# Altium footprint library PCB - MISC - RJHSE538002.PCBLIB: 1 footprints
Each footprint in its own frame and in the unit in brackets; x right, y up, seen from the top. Pads: shape width x height; smd on the part's side, far side on the other; paste and mask are expansions set on the pad; w line width, h text height; cw(c..) or ccw(c..) is an arc to the next point about the centre after c.
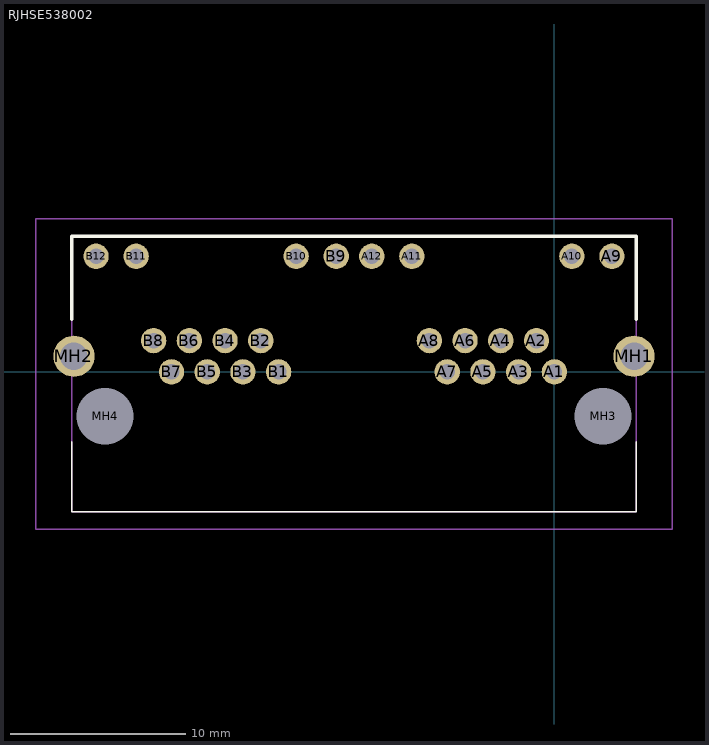
[diagram p0: the footprint, top view; thin cyan lines are the x and y axes]

## RJHSE538002 [mm]
pads (28):
  round 1.446 hole 0.89: A1(0,0) A2(-1.02,1.78) A3(-2.04,0) A4(-3.06,1.78) A5(-4.08,0) A6(-5.1,1.78) A7(-6.12,0) A8(-7.14,1.78) A9(3.29,6.6) A10(1,6.6) A11(-8.14,6.6) A12(-10.43,6.6) B1(-15.75,0) B2(-16.77,1.78) B3(-17.79,0) B4(-18.81,1.78) B5(-19.83,0) B6(-20.85,1.78) B7(-21.87,0) B8(-22.89,1.78) B9(-12.46,6.6) B10(-14.75,6.6) B11(-23.89,6.6) B12(-26.18,6.6)
  round 2.355 hole 1.57: MH1(4.555,0.89) MH2(-27.445,0.89)
  round 1.625 hole 3.25 unplated: MH3(2.78,-2.54) MH4(-25.67,-2.54)
Top Overlay:
  lines w0.1: -27.575,-4 -27.575,-8 4.685,-8 4.685,-4
  lines w0.2: -27.575,3 -27.575,7.75 4.685,7.75 4.685,3
Top Assembly:
  lines w0.1: -27.575,-8 4.685,-8 4.685,7.75 -27.575,7.75 -27.575,-8
Top Courtyard:
  lines w0.1: -29.623,-9 6.732,-9 6.732,8.75 -29.623,8.75 -29.623,-9
Top Designator:
  text ".Designator" at -27.653,-8.862 h1
Top Value (Mech13):
  text ".Comment" at -27.559,-9.895 h1
3D body "RJHSE-5380-02.stp": height 13.56, standoff -5, extent -28.125,-8 5.24,7.75